# Altium footprint library WCAP-FTXH.PcbLib: 36 footprints (part 3 of 3)
Each footprint in its own frame and in the unit in brackets; x right, y up, seen from the top. Pads: shape width x height; smd on the part's side, far side on the other; paste and mask are expansions set on the pad; w line width, h text height; cw(c..) or ccw(c..) is an arc to the next point about the centre after c.
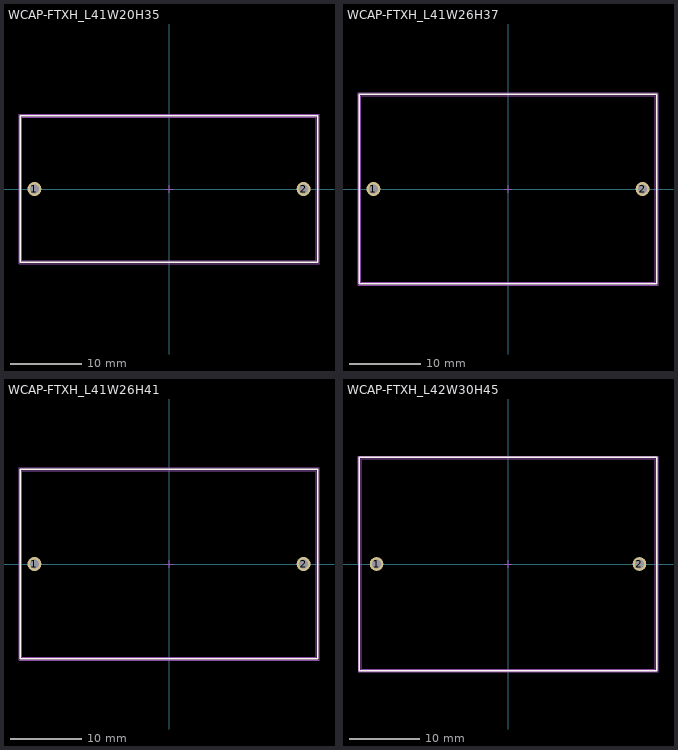
[diagram p2: the footprints below, top view; thin cyan lines are the x and y axes]

## WCAP-FTXH_L41W20H35 [mm] "Film Capacitor, body 41.00x20.00mm"
height 35
pads (2):
  round 1.95 hole 1.3: 1(-18.75,0) 2(18.75,0)
Top Overlay:
  lines w0.2: -20.7,-10.2 -20.7,10.2 20.7,10.2 20.7,-10.2 -20.7,-10.2
Top Assembly:
  lines w0.1: -20.7,-10.2 -20.7,10.2 20.7,10.2 20.7,-10.2 -20.7,-10.2
Top Designator:
  text ".Designator" at -3.647,-0.357 h1
Top 3D Body:
  lines w0.1: -20.5,-10 -20.5,10 20.5,10 20.5,-10 -20.5,-10
Top Courtyard:
  lines w0.05: -20.9,-10.4 -20.9,10.4 20.9,10.4 20.9,-10.4 -20.9,-10.4
Top Component Center:
  lines w0.1: -0.5,0 0.5,0 ; 0,-0.5 0,0.5
3D body "37,5x41x20x35.stp": height 34.85, standoff -3.85, extent -20.5,-10 20.5,10

## WCAP-FTXH_L41W26H37 [mm] "Film Capacitor, body 41.00x26.00mm"
height 37
pads (2):
  round 1.95 hole 1.3: 1(-18.75,0) 2(18.75,0)
Top Overlay:
  lines w0.2: -20.7,-13.2 20.7,-13.2 20.7,13.2 -20.7,13.2 -20.7,-13.2
Top Assembly:
  lines w0.1: -20.7,-13.2 20.7,-13.2 20.7,13.2 -20.7,13.2 -20.7,-13.2
Top Designator:
  text ".Designator" at -3.647,-0.357 h1
Top 3D Body:
  lines w0.1: -20.5,-13 20.5,-13 20.5,13 -20.5,13 -20.5,-13
Top Courtyard:
  lines w0.05: -20.9,-13.4 20.9,-13.4 20.9,13.4 -20.9,13.4 -20.9,-13.4
Top Component Center:
  lines w0.1: -0.5,0 0.5,0 ; 0,-0.5 0,0.5
3D body "37,5x41x26x37.stp": height 36.85, standoff -3.85, extent -20.5,-13 20.5,13

## WCAP-FTXH_L41W26H41 [mm] "Film Capacitor, body 41.00x26.00mm"
height 41
pads (2):
  round 1.95 hole 1.3: 1(-18.75,0) 2(18.75,0)
Top Overlay:
  lines w0.2: -20.7,-13.2 20.7,-13.2 20.7,13.2 -20.7,13.2 -20.7,-13.2
Top Assembly:
  lines w0.1: -20.7,-13.2 20.7,-13.2 20.7,13.2 -20.7,13.2 -20.7,-13.2
Top Designator:
  text ".Designator" at -3.647,-0.357 h1
Top 3D Body:
  lines w0.1: -20.5,-13 20.5,-13 20.5,13 -20.5,13 -20.5,-13
Top Courtyard:
  lines w0.05: -20.9,-13.4 20.9,-13.4 20.9,13.4 -20.9,13.4 -20.9,-13.4
Top Component Center:
  lines w0.1: -0.5,0 0.5,0 ; 0,-0.5 0,0.5
3D body "37,5x41x26x41.stp": height 40.85, standoff -3.85, extent -20.5,-13 20.5,13

## WCAP-FTXH_L42W30H45 [mm] "Film Capacitor, body 41.00x26.00mm"
height 37
pads (2):
  round 1.95 hole 1.3: 1(-18.75,0) 2(18.75,0)
Top Overlay:
  lines w0.2: -21.2,-15.2 21.2,-15.2 21.2,15.2 -21.2,15.2 -21.2,-15.2
Top Assembly:
  lines w0.1: -21.2,-15.2 21.2,-15.2 21.2,15.2 -21.2,15.2 -21.2,-15.2
Top Designator:
  text ".Designator" at -3.647,-0.357 h1
Top 3D Body:
  lines w0.1: -21,-15 -21,15 21,15 21,-15 -21,-15
Top Courtyard:
  lines w0.05: -21.4,-15.4 -21.4,15.4 21.4,15.4 21.4,-15.4 -21.4,-15.4
Top Component Center:
  lines w0.1: -0.5,0 0.5,0 ; 0,-0.5 0,0.5
3D body "37,5x42x30x45.stp": height 45.85, standoff -3.15, extent -21,-15 21,15